# Altium footprint library Sensors.PcbLib: 12 footprints
Each footprint in its own frame and in the unit in brackets; x right, y up, seen from the top. Pads: shape width x height; smd on the part's side, far side on the other; paste and mask are expansions set on the pad; w line width, h text height; cw(c..) or ccw(c..) is an arc to the next point about the centre after c.
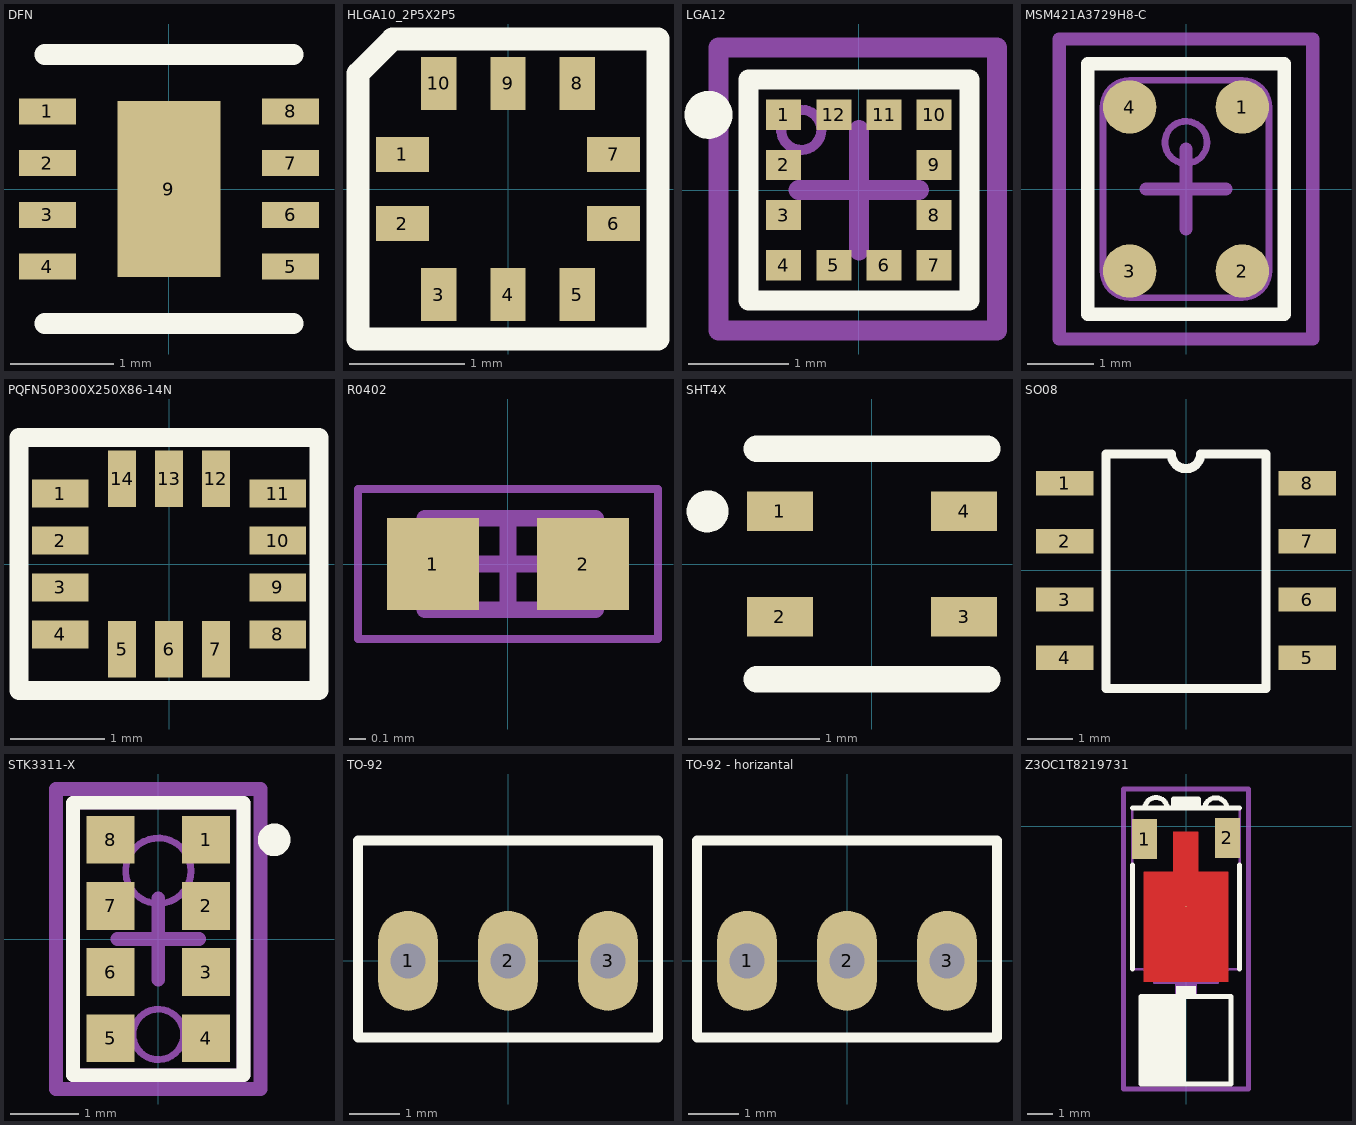
[diagram p0: the footprints below, top view; thin cyan lines are the x and y axes]

## DFN [mm]
pads (9):
  rect 0.55x0.25 smd: 1(-1.175,0.75) 2(-1.175,0.25) 3(-1.175,-0.25) 4(-1.175,-0.75) 5(1.175,-0.75) 6(1.175,-0.25) 7(1.175,0.25) 8(1.175,0.75)
  rect 1x1.7 smd: 9(0,0)
Top Overlay:
  lines w0.2: -1.2,-1.3 1.2,-1.3 ; -1.2,1.3 1.2,1.3
3D body "SHT3x.STEP": height 0.91, standoff 0.01, extent -1.251,-1.251 1.251,1.251

## HLGA10_2P5X2P5 [mil]
pads (10):
  rect 18x12 smd paste+0 mask+0: 1(-36,11.81) 2(-36,-11.81) 6(36,-11.81) 7(36,11.81)
  rect 12x18 smd paste+0 mask+0: 3(-23.62,-36) 4(0,-36) 5(23.62,-36) 8(23.62,36) 9(0,36) 10(-23.62,36)
Top Overlay:
  lines w7.87: -51.18,-51.18 51.18,-51.18 51.18,51.18 -39.37,51.18 -51.18,39.37 -51.18,-51.18
3D body: height 10, standoff 0, extent 0,0 10,10
3D body "HLGA-10L.step": height 32, standoff 0.5, extent -39.38,-39.38 39.36,39.36

## LGA12 [mm]
pads (12):
  rect 0.35x0.3 smd mask+0: 1(-0.75,0.75) 2(-0.75,0.25) 3(-0.75,-0.25) 4(-0.75,-0.75) 5(-0.25,-0.75) 6(0.25,-0.75) 7(0.75,-0.75) 8(0.75,-0.25) 9(0.75,0.25) 10(0.75,0.75) 11(0.25,0.75) 12(-0.25,0.75)
Top Overlay:
  circle w0.25: c-1.5,0.75 r0.114
  lines w0.2: -1.1,-1.1 1.1,-1.1 1.1,1.1 -1.1,1.1 -1.1,-1.1
Mechanical 13:
  circle w0.1: c-0.575,0.6 r0.2
  lines w0.1: -1.1,-1.1 1.1,-1.1 1.1,1.1 -1.1,1.1 -1.1,-1.1
  text ".Designator" at -2.499,-0.467 h0.5
Mechanical 15:
  lines w0.2: -0.6,0 0.6,0 ; 0,-0.6 0,0.6 ; -1.4,-1.4 1.376,-1.4 1.376,1.421 -1.4,1.421 -1.4,-1.4
3D body "LGA12 v2.step": height 0.96, standoff 0, extent -1.008,-1 0.992,1

## MSM421A3729H8-C [mm]
pads (4):
  round 0.8 smd: 1(0.845,1.23) 2(0.845,-1.23) 3(-0.845,-1.23) 4(-0.845,1.23)
Top Overlay:
  lines w0.2: -1.475,-1.88 1.475,-1.88 1.475,1.88 -1.475,1.88 -1.475,-1.88
Mechanical 13:
  circle w0.1: c0,0.7 r0.316
  rectangle: 1.108,-1.526 1.119,-1.513
  lines w0.1: -1.475,-1.88 -1.475,1.88 1.475,1.88 1.475,-1.88 -1.475,-1.88 ; -1.245,-1.23 ccw(c-0.845,-1.23) -0.845,-1.63 0.845,-1.63 ccw(c0.845,-1.23) 1.245,-1.23 1.245,1.23 ccw(c0.845,1.23) 0.845,1.63 -0.845,1.63 ccw(c-0.845,1.23) -1.245,1.23 -1.245,-1.23
  text ".Designator" at -2.499,-0.558 h0.5
Mechanical 15:
  lines w0.2: -0.6,0 0.6,0 ; 0,-0.6 0,0.6 ; -1.9,-2.25 -1.9,2.25 1.9,2.25 1.9,-2.25 -1.9,-2.25
3D body "MSM421A3729H8-C v1.step": height 1.14, standoff 0.01, extent -1.475,-1.88 1.475,1.88

## PQFN50P300X250X86-14N [mm]
pads (14):
  rect 0.6x0.3 smd mask+0: 1(-1.16,0.75) 2(-1.16,0.25) 3(-1.16,-0.25) 4(-1.16,-0.75) 8(1.16,-0.75) 9(1.16,-0.25) 10(1.16,0.25) 11(1.16,0.75)
  rect 0.3x0.6 smd mask+0: 5(-0.5,-0.91) 6(0,-0.91) 7(0.5,-0.91) 12(0.5,0.91) 13(0,0.91) 14(-0.5,0.91)
Top Overlay:
  lines w0.2: -1.6,-1.35 -1.6,1.35 -1.575,1.35 1.6,1.35 1.6,-1.35 -1.575,-1.35
3D body "LGA-14L.step": height 0.89, standoff 0.01, extent -1.5,-1.25 1.5,1.25

## R0402 [mm] "Chip Resistor, 2-Leads, Body 1.00x0.50mm, IPC Medium Density"
height 0.4
pads (2):
  rect 0.55x0.55 smd: 1(-0.45,0) 2(0.45,0)
Mechanical 13:
  rectangle: -0.5,-0.296 -0.39,0.275
  region: 0.525,0.296 0.415,0.296 0.415,-0.275 0.525,-0.275
  lines w0.1: -0.5,-0.275 -0.5,0.275 0.525,0.275 0.525,-0.275 -0.5,-0.275
  text ".Designator" at -0.356,-0.037 h0.2
Mechanical 15:
  lines w0.05: -0.9,-0.45 0.9,-0.45 0.9,0.45 -0.9,0.45 -0.9,-0.45
  lines w0.1: -0.275,0 0.275,0 ; 0,-0.275 0,0.275
3D body "SMD_0402.step": height 0.36, standoff 0.01, extent -0.5,-0.25 0.5,0.25

## SHT4X [mm]
pads (4):
  rect 0.5x0.3 smd: 1(-0.7,0.4) 2(-0.7,-0.4) 3(0.7,-0.4) 4(0.7,0.4)
Top Overlay:
  circle w0.16: c-1.25,0.4 r0.08
  lines w0.2: -0.875,-0.875 0.875,-0.875 ; -0.875,0.875 0.875,0.875
3D body "step_temp.STEP": height 0.54, standoff 0, extent -0.751,-0.751 0.751,0.751

## SO08 [mm]
pads (8):
  rect 1.25x0.53 smd: 1(-2.65,1.905) 2(-2.65,0.635) 3(-2.65,-0.635) 4(-2.65,-1.905) 5(2.65,-1.905) 6(2.65,-0.635) 7(2.65,0.635) 8(2.65,1.905)
Top Overlay:
  lines w0.2: -1.75,-2.575 1.75,-2.575 1.75,2.54 0.318,2.54 cw(c0,2.54) -0.318,2.54 -1.75,2.54 -1.75,-2.575
3D body "SO8.step": height 1.46, standoff 0.01, extent -2.889,-2.452 2.889,2.45

## STK3311-X [mm]
pads (8):
  rect 0.7x0.7 smd: 1(0.7,1.455) 2(0.7,0.485) 3(0.7,-0.485) 4(0.7,-1.455) 5(-0.7,-1.455) 6(-0.7,-0.485) 7(-0.7,0.485) 8(-0.7,1.455)
Top Overlay:
  circle w0.25: c1.7,1.455 r0.114
  lines w0.2: -1.25,-2 -1.25,2 1.25,2 1.25,-2 -1.25,-2
Mechanical 13:
  circle w0.1: c0.9,1.6 r0.1
  circle w0.1: c0,-1.4 r0.37
  circle w0.1: c0,1 r0.48
  lines w0.2: -1.25,-2 -1.25,2 1.25,2 1.25,-2 -1.25,-2
  text ".Designator" at -2.499,-0.167 h0.5
Mechanical 15:
  lines w0.2: -0.6,0 0.6,0 ; 0,-0.6 0,0.6 ; -1.5,-2.2 -1.5,2.2 1.5,2.2 1.5,-2.2 -1.5,-2.2
3D body: height 1.35, standoff 0, extent -1.2,-2 1.2,2

## TO-92 [mm]
pads (3):
  oval 1.2x2 hole 0.7: 1(-2,0) 2(0,0) 3(2,0)
Top Overlay:
  lines w0.2: -3,-1.53 -3,2.4 3,2.4 3,-1.53 -3,-1.53
3D body "TO-92A.step": height 8, standoff -3, extent -2.4,-1.53 2.4,2.4

## TO-92 - horizantal [mm]
pads (3):
  oval 1.2x2 hole 0.7: 1(-2,0) 2(0,0) 3(2,0)
Top Overlay:
  lines w0.2: -3,-1.53 3,-1.53 3,2.4 -3,2.4 -3,-1.53
3D body "TO-92A.step": height 2.63, standoff -1.3, extent -2.4,-7.5 2.4,3.5

## Z3OC1T8219731 [mm]
pads (3):
  rect 1x1.6 smd: 1(-1.65,-0.5) 2(1.65,-0.45)
  round 0.025 smd: 3(0,-3.2)
Top Layer:
  region: -1.7,-6.2 -1.7,-1.8 -0.5,-1.8 -0.5,-0.2 0.5,-0.2 0.5,-1.8 1.7,-1.8 1.7,-6.2
Top Overlay:
  rectangle: -0.402,-6.8 0.393,-6.371
  rectangle: -0.499,0.75 0.499,1.103
  rectangle: -0.402,-6.8 0.393,-6.6
  rectangle: -1.796,-10.3 0.009,-6.8
  lines w0.2: -2.14,-5.7 -2.14,-1.541 ; -2.14,0.75 0,0.75 2.14,0.75 ; -1.646,0.763 cw(c-1.197,0.708) -0.748,0.763 ; -0.499,0.75 -0.499,1.103 0,1.103 0.499,1.103 0.499,0.75 ; -0.402,-6.8 -0.393,-6.8 ; 0.745,0.751 cw(c1.194,0.696) 1.643,0.75 ; 2.14,-5.7 2.14,-1.541 ; -1.796,-10.3 -1.796,-6.8 1.796,-6.8 1.796,-10.3 0,-10.3 -1.796,-10.3
Mechanical 1:
  lines w0.075: -2.05,-0.5 -1.65,-0.5 -1.65,-1.05 ; 1.65,-1 1.65,-0.45 2.05,-0.45
Mechanical 13:
  rectangle: -0.402,-6.8 0.393,-6.25
  rectangle: -0.499,0.75 0.499,1.103
  rectangle: -0.402,-6.8 0.393,-6.7
  rectangle: -1.796,-10.3 0.009,-6.8
  lines w0.075: -1.639,0.741 cw(c-1.19,0.686) -0.74,0.741 ; 0.74,0.741 cw(c1.19,0.686) 1.639,0.741
  lines w0.1: -0.499,0.75 -0.499,1.103 0,1.103 0.499,1.103 0.499,0.75 ; -0.402,-6.8 -0.393,-6.8 -0.393,-6.25 ; 0.393,-6.8 0.393,-6.25 ; -2.14,-5.7 -2.14,0.75 0,0.75 2.14,0.75 2.14,-5.7 1.26,-5.7 1.26,-6.25 -1.26,-6.25 -1.26,-5.7 -2.14,-5.7 ; -1.796,-10.3 -1.796,-6.8 1.796,-6.8 1.796,-10.3 0,-10.3 -1.796,-10.3
  text ".Designator" at 0.162,-5.075 h0.5
Mechanical 15:
  lines w0.2: -0.6,-4.5 0.6,-4.5 ; 0,-5.1 0,-3.9 ; -2.5,-10.5 -2.5,1.5 2.5,1.5 2.5,-10.5 -2.5,-10.5
3D body "Z3OC1T8219731.step": height 3.49, standoff 0.01, extent -2.198,-10.3 2.198,1.193